# Altium schematic symbol library ATMEGA328P-AU.SchLib: 2 symbols
Pins are listed as number, name and electrical type; pins without a type are passive.

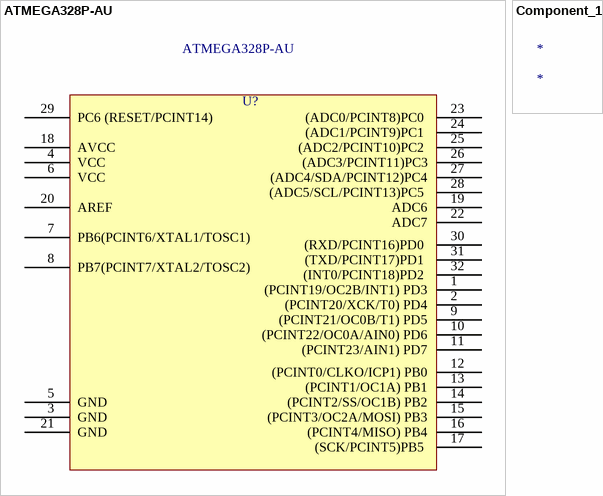
[diagram p0: symbols ATMEGA328P-AU to Component_1]

## ATMEGA328P-AU
designator U?  Supplier Part Number 1: ATMEGA328P-AU
Risc Microcontroller, 8-BIT, Flash, AVR Risc Cpu, 20MHZ, Cmos, PQFP32; Manufacturer: Microchip; Interface: I2C,SPI,USART; RAM Size: 2KB; Max Supply Voltage: 5.5V; Min Supply Voltage: 1.8V; Number of I/Os: 23; Number of Timers/Counters: 3; Number of ADC Channels: 8; Number of PWM Channels: 6; Oscillator Type: Internal; Data Bus Width: 8b; Number of SPI Channels: 1; Watchdog Timer: Yes; Memory Size: 32KB; Peripherals: Brown-out Detect/Reset,POR,PWM,WDT; Number of A/D Converters: 1NUMBER; Supplier 1: Arrow Electronics; Manufacturer Part Number: ATMEGA328P-AU; RoHS: Yes; Category: Microcontrollers; Stock 1: 945; Pricing 1: 1=2.262, 25=2.24, 100=2.21 (USD); Mount: Surface Mount; Case/Package: A; Number of Pins: 32; Weight: 0.002469oz; Min Operating Temperature: -40°C; Max Operating Temperature: 85°C; Packaging: Tray; Package Quantity: 250; Frequency: 20MHz; Number of Programmable I/O: 23; Max Frequency: 20MHz; Number of I2C Channels: 1; Memory Type: FLASH; Core Architecture: AVR; Series: ATmega328P; Length: 7mm; Width: 7mm; Height: 1mm; Radiation Hardening: No; Reach SVHC Compliant: Yes; Lead Free: Lead Free; RoHS Compliant: Yes; ComponentLink1URL: http://www.atmel.com/Images/Atmel-8271-8-bit-AVR-Microcontroller-ATmega48A-48PA-88A-88PA-168A-168PA-328-328P_datasheet.pdf; ComponentLink1Description: http://www.atmel.com/Images/Atmel-8271-8-bit-AVR-Microcontroller-ATmega48A-48PA-88A-88PA-168A-168PA-328-328P_datasheet.pdf
pins: 1 (PCINT19/OC2B/INT1) PD3, 2 (PCINT20/XCK/T0) PD4, 3 GND, 4 VCC, 5 GND, 6 VCC, 7 PB6(PCINT6/XTAL1/TOSC1), 8 PB7(PCINT7/XTAL2/TOSC2) , 9 (PCINT21/OC0B/T1) PD5, 10 (PCINT22/OC0A/AIN0) PD6, 11 (PCINT23/AIN1) PD7, 12 (PCINT0/CLKO/ICP1) PB0, 13 (PCINT1/OC1A) PB1, 14 (PCINT2/SS/OC1B) PB2, 15 (PCINT3/OC2A/MOSI) PB3, 16 (PCINT4/MISO) PB4, 17 (SCK/PCINT5)PB5 , 18 AVCC, 19 ADC6, 20 AREF, 21 GND, 22 ADC7, 23 (ADC0/PCINT8)PC0 , 24 (ADC1/PCINT9)PC1 , 25 (ADC2/PCINT10)PC2 , 26 (ADC3/PCINT11)PC3, 27 (ADC4/SDA/PCINT12)PC4, 28 (ADC5/SCL/PCINT13)PC5 , 29 PC6 (RESET/PCINT14), 30 (RXD/PCINT16)PD0 , 31 (TXD/PCINT17)PD1 , 32 (INT0/PCINT18)PD2 

## Component_1
designator *